# Altium footprint library 元器件.PCBLIB: 210 footprints (part 14 of 14)
Each footprint in its own frame and in the unit in brackets; x right, y up, seen from the top. Pads: shape width x height; smd on the part's side, far side on the other; paste and mask are expansions set on the pad; w line width, h text height; cw(c..) or ccw(c..) is an arc to the next point about the centre after c.
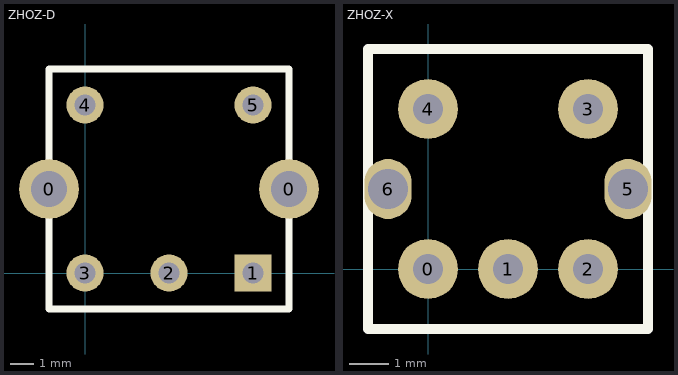
[diagram p13: the footprints below, top view; thin cyan lines are the x and y axes]

## ZHOZ-D [mil]
pads (7):
  round 100 hole 60: 0(-60,140) 0(340,140)
  rect 62x62 hole 35: 1(280,0)
  round 62 hole 35: 2(140,0) 3(0,0) 4(0,280) 5(280,280)
TopOverlay:
  lines w12: -60,-60 -60,340 340,340 340,-60 -60,-60

## ZHOZ-X [mil]
pads (7):
  round 60 hole 30: 0(0,0) 1(80,0) 2(160,0) 3(160,160) 4(0,160)
  oval 47.24x60 hole 40: 5(200,80) 6(-40,80)
TopOverlay:
  lines w10: -60,-60 -60,100 -60,220 220,220 220,-20 220,-60 -60,-60